# Altium footprint library SDR0805.PcbLib: 1 footprints
Each footprint in its own frame and in the unit in brackets; x right, y up, seen from the top. Pads: shape width x height; smd on the part's side, far side on the other; paste and mask are expansions set on the pad; w line width, h text height; cw(c..) or ccw(c..) is an arc to the next point about the centre after c.
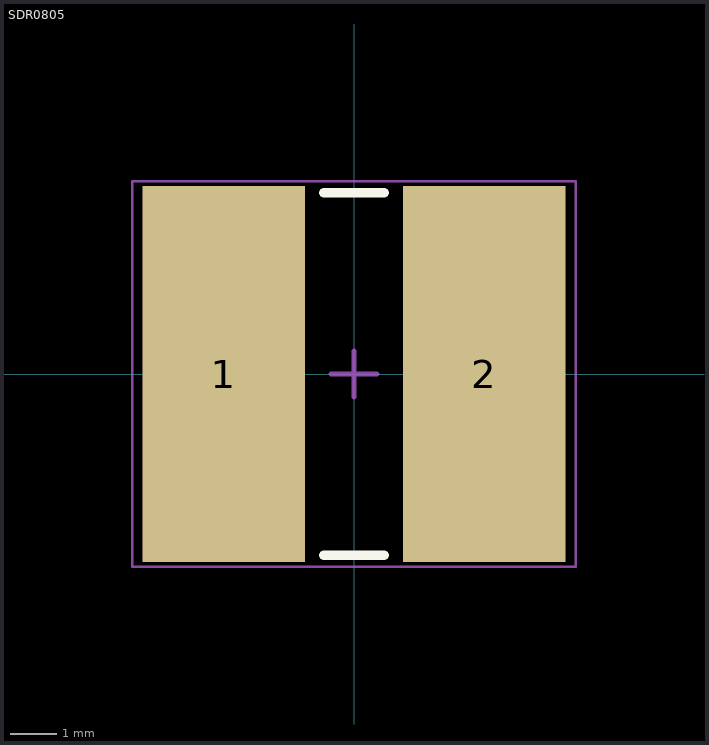
[diagram p0: the footprint, top view; thin cyan lines are the x and y axes]

## SDR0805 [mm] "Precision Wire Wound Inductor, 2-Leads, Body 7,80x7,80mm, IPC Medium Density"
height 5.3
pads (2):
  rect 3.5x8.1 smd paste-2539.97: 1(-2.8,0) 2(2.8,0)
Top Overlay:
  lines w0.2: -0.65,-3.9 0.65,-3.9 ; -0.65,3.9 0.65,3.9
Top Paste:
  rectangle: 3.05,-1.15 4.55,1.15
  rectangle: 1.05,-1.15 2.55,1.15
  rectangle: 3.05,-4.05 4.55,-1.55
  rectangle: 1.05,-4.05 2.55,-1.55
  rectangle: 3.05,1.55 4.55,4.05
  rectangle: 1.05,1.55 2.55,4.05
  rectangle: -2.55,-1.15 -1.05,1.15
  rectangle: -4.55,-1.15 -3.05,1.15
  rectangle: -2.55,-4.05 -1.05,-1.55
  rectangle: -4.55,-4.05 -3.05,-1.55
  rectangle: -2.55,1.55 -1.05,4.05
  rectangle: -4.55,1.55 -3.05,4.05
Mechanical 15:
  lines w0.05: -4.775,-4.15 -4.775,4.15 4.775,4.15 4.775,-4.15 -4.775,-4.15
  lines w0.1: -0.5,0 0.5,0 ; 0,-0.5 0,0.5
3D body "SDR0805.step": height 5.4, standoff 0, extent -4,-4 4,4